# Altium footprint library ELEC(16.0X16.8)-AV.PcbLib: 1 footprints
Each footprint in its own frame and in the unit in brackets; x right, y up, seen from the top. Pads: shape width x height; smd on the part's side, far side on the other; paste and mask are expansions set on the pad; w line width, h text height; cw(c..) or ccw(c..) is an arc to the next point about the centre after c.
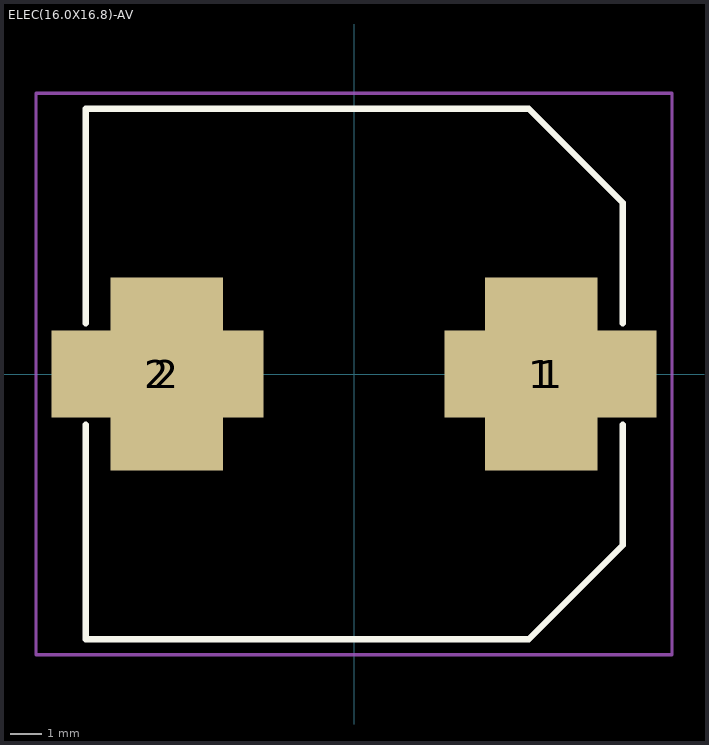
[diagram p0: the footprint, top view; thin cyan lines are the x and y axes]

## ELEC(16.0X16.8)-AV [mm]
pads (4):
  rect 3.6x6.2 smd: 1(6,0) 2(-6,0)
  rect 6.8x2.8 smd: 1(6.3,0) 2(-6.3,0)
Top Overlay:
  lines w0.2: -8.6,-1.625 -8.6,-8.5 5.6,-8.5 8.614,-5.486 8.614,-1.625 ; -8.598,1.625 -8.598,8.5 5.6,8.5 8.614,5.486 8.614,1.625
Top Courtyard:
  lines w0.1: -10.2,-9 -10.2,-1.4 -10.2,9 10.2,9 10.2,-1.4 10.2,-9 -10.2,-9
3D body "EEE-TP70471V.stp": height 16.8, standoff 0, extent -9.2,-8.5 9.2,8.5